# Altium footprint library Discrete#csv.PcbLib: 5 footprints
Each footprint in its own frame and in the unit in brackets; x right, y up, seen from the top. Pads: shape width x height; smd on the part's side, far side on the other; paste and mask are expansions set on the pad; w line width, h text height; cw(c..) or ccw(c..) is an arc to the next point about the centre after c.
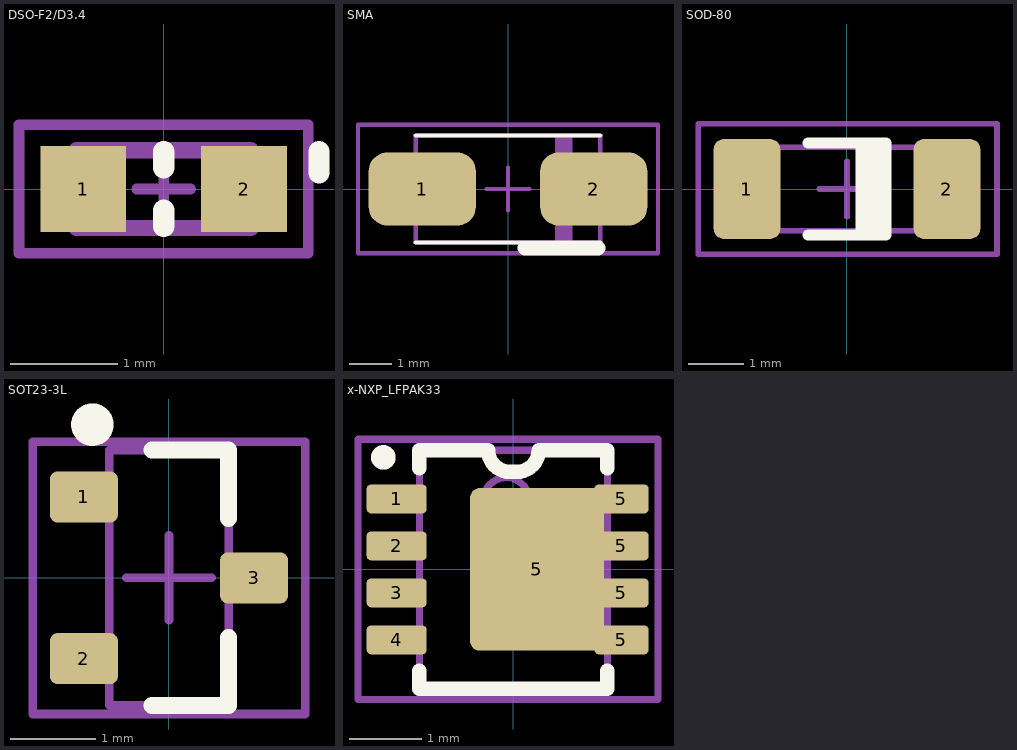
[diagram p0: the footprints below, top view; thin cyan lines are the x and y axes]

## DSO-F2/D3.4 [mm] "SM LED; 2 Flat Leads"
height 0.8
pads (2):
  rect 0.8x0.8 smd: 1(-0.75,0) 2(0.75,0)
Top Overlay:
  lines w0.2: 0,-0.35 0,-0.2 ; 0,0.2 0,0.35 ; 1.45,0.15 1.45,0.35
Mechanical 13:
  lines w0.15: -0.813,0.361 -0.813,0.141 cw(c-0.813,0.001) -0.813,-0.14 -0.813,-0.362 0.813,-0.363 0.813,-0.141 cw(c0.813,-0.001) 0.813,0.14 0.813,0.361 -0.813,0.361
Mechanical 15:
  lines w0.1: -0.25,0 0.25,0 ; 0,-0.25 0,0.25 ; -1.35,-0.6 -1.35,0.6 1.35,0.6 1.35,-0.6 -1.35,-0.6
3D body: height 0.71, standoff -0.01, extent -0.813,-0.387 0.813,0.4

## SMA [mm] "Surface Mount Diode"
height 2.3
pads (2):
  rrect50% 2.5x1.7 smd: 1(-2,0) 2(2,0)
Top Overlay:
  lines w0.1: -2.15,-1.25 2.15,-1.25 ; -2.149,1.249 2.15,1.249
  lines w0.35: 0.4,-1.375 2.1,-1.375
Mechanical 13:
  rectangle: 1.1,-1.25 1.5,1.25
  lines w0.1: -2.15,-1.25 -2.15,1.25 2.15,1.25 2.15,-1.25 -2.15,-1.25
Mechanical 15:
  lines w0.1: -0.5,0 0.5,0 ; 0,-0.5 0,0.5 ; -3.5,-1.5 -3.5,1.5 3.5,1.5 3.5,-1.5 -3.5,-1.5
3D body: height 2.15, standoff 0, extent -2.149,-1.249 2.149,1.249

## SOD-80 [mm] "MELF Diode, 2-Leads, Body 3.4x1.4mm, IPC Medium Density"
height 1.5
pads (2):
  rrect30% 1.2x1.8 smd: 1(-1.8,0) 2(1.8,0)
Top Overlay:
  rectangle: 0.15,-0.825 0.7,0.825
  lines w0.2: -0.7,-0.825 0.7,-0.825 0.7,0.825 -0.7,0.825
Mechanical 13:
  rectangle: 1.316,-0.75 1.8,0.75
  lines w0.1: -1.8,-0.75 -1.8,0.75 1.8,0.75 1.8,-0.75 -1.8,-0.75
Mechanical 15:
  lines w0.1: -0.5,0 0.5,0 ; 0,-0.5 0,0.5 ; -2.675,-1.175 -2.675,1.175 2.7,1.175 2.7,-1.175 -2.675,-1.175
3D body: height 1.5, standoff 0, extent -1.8,-0.75 1.8,0.75

## SOT23-3L [mm] "SOT23, 3-Leads, Body 2.9x1.3mm, Pitch 0.95mm, Lead Span 2.5mm, IPC High Density"
height 1.1
pads (3):
  rrect30% 0.8x0.6 smd: 1(-1,0.95) 2(-1,-0.95) 3(1,0)
Top Overlay:
  circle w0.25: c-0.9,1.8 r0.125
  lines w0.2: -0.2,-1.5 0.7,-1.5 0.7,-0.7 ; -0.2,1.5 0.7,1.5 0.7,0.7
Mechanical 13:
  lines w0.1: -0.7,-1.5 -0.7,1.5 0.7,1.5 0.7,-1.5 -0.7,-1.5
Mechanical 15:
  lines w0.1: -0.5,0 0.5,0 ; 0,-0.5 0,0.5 ; -1.6,-1.6 -1.6,1.6 1.6,1.6 1.6,-1.6 -1.6,-1.6
3D body: height 1.1, standoff 0, extent -0.7,-1.5 0.7,1.5

## x-NXP_LFPAK33 [mm] "Plastic single ended surface mounted package (LFPAK33); 5 Terminals"
height 0.9
pads (9):
  rrect30% 0.83x0.4 smd paste-2 mask+0.05: 1(-1.615,0.975) 2(-1.615,0.325) 3(-1.615,-0.325) 4(-1.615,-0.975)
  rrect14% 1.85x2.25 smd paste-2 mask+0.05: 5(0.325,0)
  rrect30% 0.75x0.4 smd paste-2 mask+0.05: 5(1.495,-0.975) 5(1.495,-0.325) 5(1.495,0.325) 5(1.495,0.975)
Top Overlay:
  circle w0.2: c-1.8,1.55 r0.071
  lines w0.2: -1.3,-1.4 -1.3,-1.65 0.25,-1.65 1.3,-1.65 1.3,-1.4 ; -1.3,1.4 -1.3,1.65 -0.35,1.65 ccw(c-0.05,1.65) -0.05,1.35 0.05,1.35 ccw(c0.05,1.65) 0.35,1.65 1.3,1.65 1.3,1.4
Top Paste:
  rectangle: -2.03,0.825 -1.2,1.125
  rectangle: -2.03,0.175 -1.2,0.475
  rectangle: -2.03,-0.475 -1.2,-0.175
  rectangle: -2.03,-1.125 -1.2,-0.825
  rectangle: 1.12,-1.125 1.87,-0.825
  rectangle: 1.12,-0.475 1.87,-0.175
  rectangle: 1.12,0.175 1.87,0.475
  rectangle: 1.12,0.825 1.87,1.125
  rectangle: -0.55,-0.943 -0.04,-0.308
  rectangle: -0.55,0.309 -0.04,0.944
  rectangle: 0.31,0.309 0.82,0.944
  rectangle: 0.31,-0.943 0.82,-0.308
Mechanical 13:
  circle w0.1: c-0.1,0.95 r0.32
  lines w0.1: -1.3,-1.65 1.3,-1.65 ; -1.3,-1.65 -1.3,1.65 1.3,1.65 1.3,-1.65 ; -1.3,-1.65 1.3,-1.65
Mechanical 15:
  lines w0.1: -0.4,0 0.4,0 ; 0,-0.4 0,0.4 ; -2.15,-1.8 2,-1.8 2,1.8 -1.75,1.8 -2.15,1.8 -2.15,-1.8
3D body: height 0.9, standoff 0, extent -1.299,-1.649 1.299,1.649